# Altium footprint library ASURT_LATCH.PcbLib: 3 footprints
Each footprint in its own frame and in the unit in brackets; x right, y up, seen from the top. Pads: shape width x height; smd on the part's side, far side on the other; paste and mask are expansions set on the pad; w line width, h text height; cw(c..) or ccw(c..) is an arc to the next point about the centre after c.
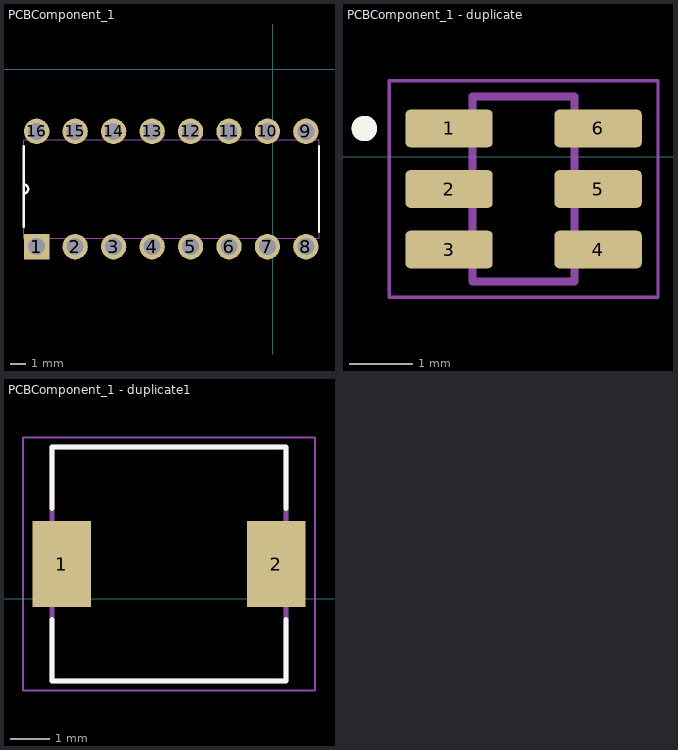
[diagram p0: the footprints below, top view; thin cyan lines are the x and y axes]

## PCBComponent_1 [mil]
pads (16):
  rect 66x66 hole 44: 1(-613.16,-460.74)
  round 66 hole 44: 2(-513.16,-460.74) 3(-413.16,-460.74) 4(-313.16,-460.74) 5(-213.16,-460.74) 6(-113.16,-460.74) 7(-13.16,-460.74) 8(86.84,-460.74) 9(86.84,-160.74) 10(-13.16,-160.74) 11(-113.16,-160.74) 12(-213.16,-160.74) 13(-313.16,-160.74) 14(-413.16,-160.74) 15(-513.16,-160.74) 16(-613.16,-160.74)
Top Overlay:
  lines w6: -647.16,-408.74 -647.16,-322.74 ; -647.16,-199.74 -647.16,-298.74 ; 120.84,-421.74 120.84,-199.74 ; -647.16,-322.74 ccw(c-647.16,-310.74) -647.16,-298.74 ; -647.16,-322.74 -647.16,-298.74
Mechanical 13:
  lines w0: -647.16,-322.74 ccw(c-647.16,-310.74) -647.16,-298.74 ; -647.16,-322.74 -647.16,-438.74 120.84,-438.74 120.84,-182.74 -647.16,-182.74 -647.16,-298.74 ; -647.16,-322.74 -647.16,-298.74 ; -635.16,-482.74 -591.16,-482.74 -591.16,-438.74 -635.16,-438.74 -635.16,-482.74 ; -635.16,-182.74 -635.16,-138.74 -591.16,-138.74 -591.16,-182.74 -635.16,-182.74 ; -535.16,-482.74 -491.16,-482.74 -491.16,-438.74 -535.16,-438.74 -535.16,-482.74 ; -535.16,-182.74 -535.16,-138.74 -491.16,-138.74 -491.16,-182.74 -535.16,-182.74 ; -435.16,-482.74 -391.16,-482.74 -391.16,-438.74 -435.16,-438.74 -435.16,-482.74 ; -435.16,-182.74 -435.16,-138.74 -391.16,-138.74 -391.16,-182.74 -435.16,-182.74 ; -335.16,-482.74 -291.16,-482.74 -291.16,-438.74 -335.16,-438.74 -335.16,-482.74 ; -335.16,-182.74 -335.16,-138.74 -291.16,-138.74 -291.16,-182.74 -335.16,-182.74 ; -235.16,-482.74 -191.16,-482.74 -191.16,-438.74 -235.16,-438.74 -235.16,-482.74 ; -235.16,-182.74 -235.16,-138.74 -191.16,-138.74 -191.16,-182.74 -235.16,-182.74 ; -135.16,-482.74 -91.16,-482.74 -91.16,-438.74 -135.16,-438.74 -135.16,-482.74 ; -135.16,-182.74 -135.16,-138.74 -91.16,-138.74 -91.16,-182.74 -135.16,-182.74 ; -35.16,-482.74 8.84,-482.74 8.84,-438.74 -35.16,-438.74 -35.16,-482.74 ; -35.16,-182.74 -35.16,-138.74 8.84,-138.74 8.84,-182.74 -35.16,-182.74 ; 64.84,-482.74 108.84,-482.74 108.84,-438.74 64.84,-438.74 64.84,-482.74 ; 64.84,-182.74 64.84,-138.74 108.84,-138.74 108.84,-182.74 64.84,-182.74
3D body "HEF4027BP (1).STEP": height 165.35, standoff -141.73, extent -639.51,-500.88 109.51,-129.12

## PCBComponent_1 - duplicate [mm]
pads (6):
  rrect25% 1.37x0.59 smd: 1(-10.949,0.442) 2(-10.949,-0.508) 3(-10.949,-1.458) 4(-8.609,-1.458) 5(-8.609,-0.508) 6(-8.609,0.442)
Top Overlay:
  circle w0.2: c-12.279,0.442 r0.1
Mechanical 13:
  circle w0.2: c-12.279,0.442 r0.1
  lines w0.127: -10.579,-1.958 -8.979,-1.958 -8.979,0.942 -10.579,0.942 -10.579,-1.958
Mechanical 15:
  lines w0.05: -11.889,-2.208 -11.889,1.192 -7.669,1.192 -7.669,-2.208 -11.889,-2.208
3D body "step_temp.STEP": height 1.4, standoff -0.05, extent -11.179,-1.97 -8.379,0.954

## PCBComponent_1 - duplicate1 [mm]
pads (2):
  rect 1.5x2.2 smd: 1(-7.83,0.889) 2(-2.33,0.889)
Top Overlay:
  lines w0.127: -8.08,-0.531 -8.08,-2.111 -2.08,-2.111 -2.08,-0.531 ; -8.08,2.309 -8.08,3.889 -2.08,3.889 -2.08,2.309
Mechanical 13:
  lines w0.127: -8.08,-2.111 -8.08,3.889 -2.08,3.889 -2.08,-2.111 -8.08,-2.111
Mechanical 15:
  lines w0.05: -8.83,-2.361 -8.83,4.139 -1.33,4.139 -1.33,-2.361 -8.83,-2.361
3D body "step_temp.STEP": height 3, standoff 0, extent -8.08,-2.111 -2.08,3.889